# Altium footprint library YaoPCB.PCBLIB: 415 footprints (part 5 of 26)
Each footprint in its own frame and in the unit in brackets; x right, y up, seen from the top. Pads: shape width x height; smd on the part's side, far side on the other; paste and mask are expansions set on the pad; w line width, h text height; cw(c..) or ccw(c..) is an arc to the next point about the centre after c.
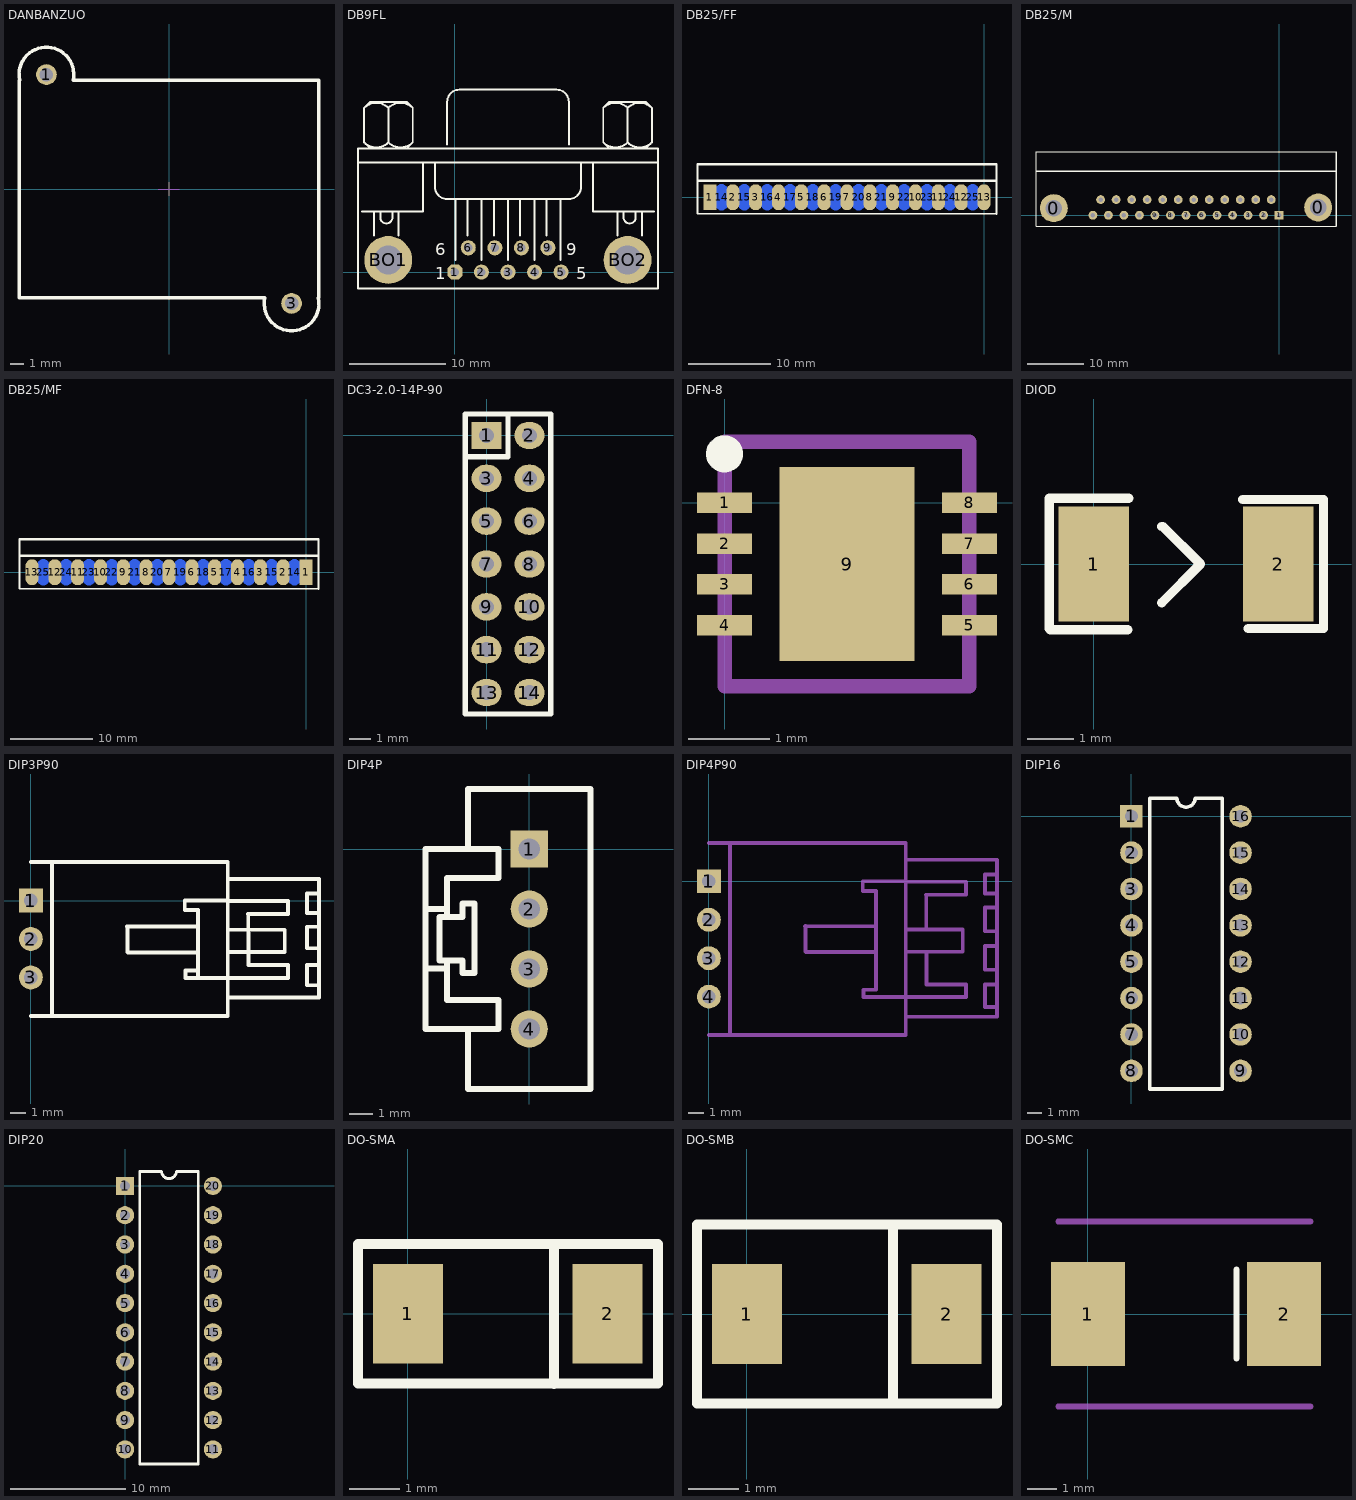
[diagram p4: the footprints below, top view; thin cyan lines are the x and y axes]

## DANBANZUO [mm]
pads (2):
  round 1.524 hole 1: 1(-9,8.4) 3(9,-8.4)
TopOverlay:
  lines w0.254: -11,-8 -11,8 ; -11,-7.998 7.027,-8 ccw(c9,-8.4) 10.972,-7.998 ; -10.972,7.998 cw(c-9,8.4) -7.027,8 11,8 11,-8
Mechanical15:
  lines w0.02: -0.787,0 0.737,0 ; 0,-0.483 0,0.508

## DB9FL [mil]
pads (11):
  oct 62x62 hole 35: 1(0,0)
  round 62 hole 35: 2(109.17,0) 3(218.33,0) 4(327.5,0) 5(436.67,0) 6(55,100) 7(164.17,100) 8(273.33,100) 9(382.5,100)
  round 196.67 hole 118.33: BO1(-274.17,50) BO2(710,50)
TopOverlay:
  lines w8: -398.33,450 835,450 ; -381.67,250 -131.67,250 -131.67,450 ; -373.42,533.25 ccw(c-323.33,583.33) -273.25,533.25 ; -373.42,675.09 cw(c-323.33,625) -273.25,675.09 ; -348.33,508.33 -373.33,533.33 -373.33,675 -348.33,700 -198.33,700 -173.33,675 -173.33,533.33 -198.33,508.33 ; -331.67,150 -331.67,250 ; -306.67,250 -306.67,225 ccw(c-281.67,225) -256.67,225 -256.67,250 ; -273.42,533.25 ccw(c-223.33,583.33) -173.25,533.25 ; -273.42,675.09 cw(c-223.33,625) -173.25,675.09 ; -273.33,533.33 -273.33,675 ; -231.67,150 -231.67,250 ; -81.67,450 -81.67,350 ccw(c-31.67,350) -31.67,300 468.33,300 ccw(c468.33,350) 518.33,350 518.33,450 ; -31.67,525 -31.67,700 cw(c18.33,700) 18.33,750 418.33,750 cw(c418.33,700) 468.33,700 468.33,525 ; 1.67,50 1.67,300 ; 51.67,150 51.67,300 ; 110,50 110,300 ; 160,150 160,300 ; 218.33,50 218.33,300 ; 268.33,150 268.33,300 ; 326.67,50 326.67,300 ; 376.67,150 376.67,300 ; 435,50 435,300 ; 568.33,450 568.33,250 818.33,250 ; 609.91,533.25 ccw(c660,583.33) 710.09,533.25 ; 609.91,675.09 cw(c660,625) 710.09,675.09 ; 635,508.33 610,533.33 610,675 635,700 785,700 810,675 810,533.33 785,508.33 ; 668.33,150 668.33,250 ; 693.33,250 693.33,225 ccw(c718.33,225) 743.33,225 743.33,250 ; 709.91,533.25 ccw(c760,583.33) 810.09,533.25 ; 709.91,675.09 cw(c760,625) 810.09,675.09 ; 710,533.33 710,675 ; 768.33,150 768.33,250 ; -398.33,-66.67 835,-66.67 835,508.33 -398.33,508.33 -398.33,-66.67
  text "9" at 458.33,70 h50
  text "5" at 498.33,-30 h50
  text "1" at -81.67,-30 h50
  text "6" at -81.67,70 h50

## DB25/FF [mil]
pads (25):
  rect 62x124 smd: 1(-1308,0)
  oval 62x124 smd: 2(-1199,0) 3(-1090,0) 4(-981,0) 5(-872,0) 6(-763,0) 7(-654,0) 8(-545,0) 9(-436,0) 10(-327,0) 11(-218,0) 12(-109,0) 13(0,0)
  oval 62x124 smd far side: 14(-1253,0) 15(-1144,0) 16(-1035,0) 17(-926,0) 18(-817,0) 19(-708,0) 20(-599,0) 21(-490,0) 22(-381,0) 23(-272,0) 24(-163,0) 25(-54,0)
TopOverlay:
  lines w8: -1368,157.48 -1368,-78.74 60,-78.74
  lines w10: -1368,78.74 60,78.74 ; -1368,157.48 60,157.48 60,-78.74

## DB25/M [mil]
pads (27):
  round 196.85 hole 118.11: 0(-1583,50) 0(275,55)
  rect 62x62 hole 32: 1(0,0)
  round 62 hole 32: 2(-109,0) 3(-218,0) 4(-327,0) 5(-436,0) 6(-545,0) 7(-654,0) 8(-763,0) 9(-872,0) 10(-981,0) 11(-1090,0) 12(-1199,0) 13(-1308,0) 14(-55,110) 15(-164,110) 16(-273,110) 17(-382,110) 18(-491,110) 19(-600,110) 20(-709,110) 21(-818,110) 22(-927,110) 23(-1036,110) 24(-1145,110) 25(-1254,110)
TopOverlay:
  lines w8: 400,-78.74 -1708,-78.74 -1708,448 400,448
  lines w10: -1708,310 400,310 ; 400,-78.74 400,448

## DB25/MF [mil]
pads (25):
  rect 62x124 smd: 1(0,0)
  oval 62x124 smd: 2(-109,0) 3(-218,0) 4(-327,0) 5(-436,0) 6(-545,0) 7(-654,0) 8(-763,0) 9(-872,0) 10(-981,0) 11(-1090,0) 12(-1199,0) 13(-1308,0)
  oval 62x124 smd far side: 14(-55,0) 15(-164,0) 16(-273,0) 17(-382,0) 18(-491,0) 19(-600,0) 20(-709,0) 21(-818,0) 22(-927,0) 23(-1036,0) 24(-1145,0) 25(-1254,0)
TopOverlay:
  lines w8: -1368,157.48 -1368,-78.74 60,-78.74
  lines w10: -1368,78.74 60,78.74 ; -1368,157.48 60,157.48 60,-78.74

## DC3-2.0-14P-90 [mm]
pads (14):
  rect 1.397x1.27 hole 0.7: 1(-0.01,0)
  oval 1.397x1.27 hole 0.7: 2(1.99,0) 3(-0.01,-2) 4(1.99,-2) 5(-0.01,-4) 6(1.99,-4) 7(-0.01,-6) 8(1.99,-6) 9(-0.01,-8) 10(1.99,-8) 11(-0.01,-10) 12(1.99,-10) 13(-0.01,-12) 14(1.99,-12)
TopOverlay:
  lines w0.254: -1.01,-1 0.99,-1 0.99,1 ; -1.01,-13 -1.01,1 2.99,1 2.99,-13 -1.01,-13

## DFN-8 [mm]
pads (9):
  rect 0.675x0.25 smd: 1(0,0) 2(0,-0.5) 3(0,-1) 4(0,-1.5) 5(3,-1.5) 6(3,-1) 7(3,-0.5) 8(3,0)
  rect 1.65x2.38 smd: 9(1.5,-0.75)
TopOverlay:
  circle w0.254: c0,0.6 r0.1
Mechanical15:
  lines w0.177: 0,-2.25 3,-2.25 3,0.75 0,0.75 0,-2.25

## DIOD [mm]
pads (2):
  rect 1.524x2.5 smd: 1(0,0) 2(4,0)
TopOverlay:
  lines w0.203: 0.737,-1.422 -0.94,-1.422 -0.965,-1.397 -0.965,1.422 0.762,1.422 ; 1.473,-0.838 2.311,0 1.499,0.813 1.473,0.813 ; 3.226,1.397 4.978,1.397 4.978,-1.397 3.353,-1.397

## DIP3P90 [mil]
pads (3):
  rect 62x62 hole 35.43: 1(0,0)
  round 62 hole 35.43: 2(0,-100) 3(0,-200)
TopOverlay:
  lines w10: 0,-300 511.81,-300 511.81,100 0,100 ; 55.12,-300 55.12,100 ; 249,-67.79 435,-67.79 ; 251,-66.79 251,-133.79 252,-134.79 434,-134.79 ; 400,-25 400,0 507,0 ; 401,-25 434,-25 434,-201 ; 434,-182 402,-182 402,-201 511.81,-201 668,-201 668,-168 566,-168 566,-84 ; 511.81,-252 749,-252 749,56 ; 511.81,-75.79 660,-75.79 660,-133.79 512.81,-133.79 ; 511.81,-1 668,-1 668,-35 564,-35 ; 511.81,56 748,56 ; 565,-122 565,-35 ; 748,-220.08 718,-220.08 718,-168 749,-168 ; 748,-124.02 718,-124.02 718,-68 749,-68 ; 748,-33 747,-32 718,-32 718,18 749,18

## DIP4P [mil]
pads (4):
  rect 62x62 hole 35.43: 1(0,0)
  round 62 hole 35.43: 2(0,-100) 3(0,-200) 4(0,-300)
TopOverlay:
  lines w10: -173.23,-100 -137,-100 ; -173,-199 -138,-199 ; -137,-190 -137,-252 -51.18,-252 -51.18,-300 -173.23,-300 -173.23,0 -51.18,0 -51.18,-48 -137,-48 -137,-113 ; -102.36,-299.64 -102.36,-400 102.36,-400 102.36,100 -102.36,100 -102.36,0.36 ; -150,-186 -150,-113 -111,-113 -111,-91 -91,-91 -91,-207 -111,-207 -111,-186 -150,-186

## DIP4P90 [mil]
pads (4):
  rect 62x62 hole 35.43: 1(0,0)
  round 62 hole 35.43: 2(0,-100) 3(0,-200) 4(0,-300)
Mechanical15:
  lines w10: 0,-400 511.81,-400 511.81,100 0,100 ; 55.12,-400 55.12,100 ; 249,-117 435,-117 ; 251,-116 251,-183 252,-184 434,-184 ; 400,-25 400,0 507,0 ; 401,-25 434,-25 434,-282 402,-282 402,-301 511.81,-301 668,-301 668,-268 566,-268 566,-184 ; 511.81,-352 749,-352 749,56 ; 511.81,-125 660,-125 660,-183 512.81,-183 ; 511.81,-1 668,-1 668,-35 564,-35 ; 511.81,56 748,56 ; 565,-122 565,-35 ; 748,-230 718,-230 718,-168 749,-168 ; 748,-130 718,-130 718,-68 749,-68 ; 748,-33 747,-32 718,-32 718,18 749,18 ; 749,-327 718,-327 718,-268 749,-268

## DIP16 [mil]
pads (16):
  rect 62x62 hole 35: 1(0,0)
  round 62 hole 35: 2(0,-100) 3(0,-200) 4(0,-300) 5(0,-400) 6(0,-500) 7(0,-600) 8(0,-700) 9(300,-700) 10(300,-600) 11(300,-500) 12(300,-400) 13(300,-300) 14(300,-200) 15(300,-100) 16(300,0)
TopOverlay:
  lines w10: 50,-750 50,50 125,50 ccw(c150,50) 175,50 250,50 250,-750 50,-750

## DIP20 [mil]
pads (20):
  rect 62x62 hole 35: 1(0,0)
  round 62 hole 35: 2(0,-100) 3(0,-200) 4(0,-300) 5(0,-400) 6(0,-500) 7(0,-600) 8(0,-700) 9(0,-800) 10(0,-900) 11(300,-900) 12(300,-800) 13(300,-700) 14(300,-600) 15(300,-500) 16(300,-400) 17(300,-300) 18(300,-200) 19(300,-100) 20(300,0)
TopOverlay:
  lines w10: 50,-950 250,-950 250,50 175,50 cw(c150,50) 125,50 50,50 50,-950

## DO-SMA [mm]
pads (2):
  rect 1.4x2 smd: 1(0,0) 2(4,0)
TopOverlay:
  lines w0.2: -1,-1.4 -1,1.4 5.01,1.4 5.01,-1.4 -1,-1.4
  lines w0.203: 2.93,-1.41 2.93,1.39

## DO-SMB [mm]
pads (2):
  rect 1.4x2 smd: 1(0,0) 2(4,0)
TopOverlay:
  lines w0.2: -1,-1.79 5.01,-1.79 5.01,1.79 -1,1.79 -1,-1.79
  lines w0.203: 2.93,-1.79 2.93,1.79

## DO-SMC [mm]
pads (2):
  rect 2.5x3.5 smd: 1(0,0) 2(6.61,0)
TopOverlay:
  lines w0.203: 5,-1.5 5,1.5
Mechanical15:
  lines w0.2: -1,-3.115 7.5,-3.115 ; -1,3.115 7.5,3.115